# EAGLE library part PIC32MX340F512H (library NBitWonder)
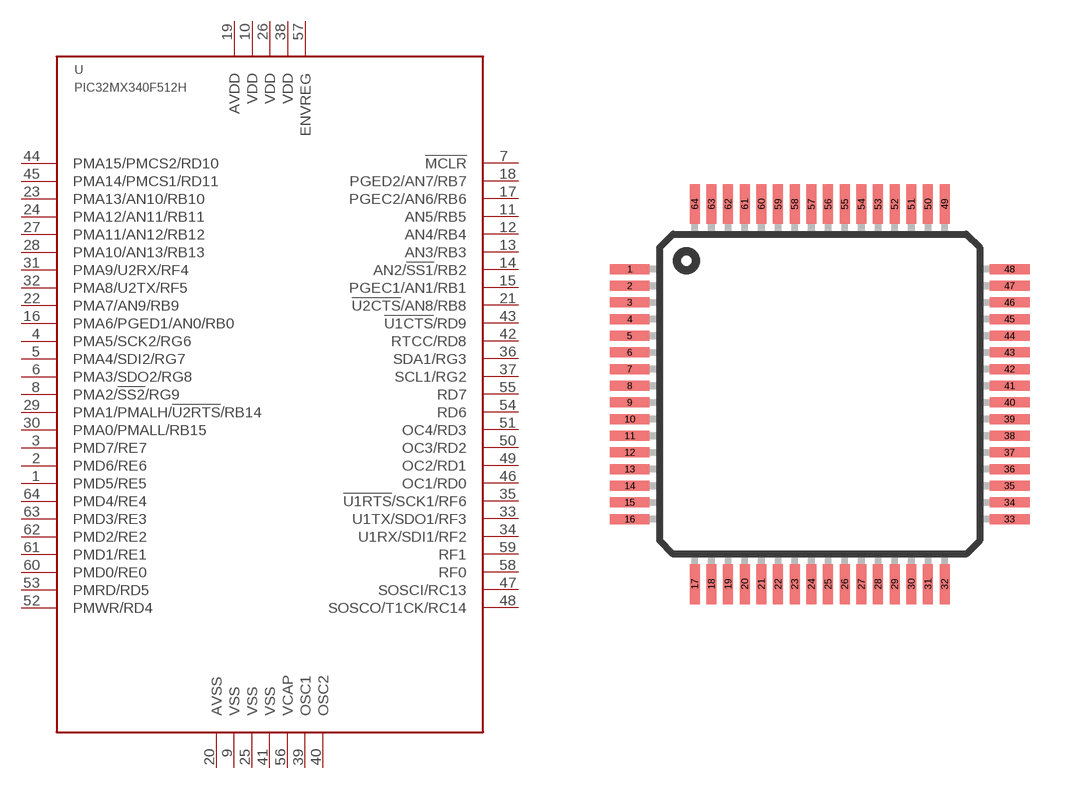
[diagram p7: symbol with the pads of TQFP64-10X10; footprint TQFP64-10X10]

Designator prefix -

## PIC32MX340F512H  [TQFP64-10X10]
1  PMD5/RE5
2  PMD6/RE6
3  PMD7/RE7
4  PMA5/SCK2/RG6
5  PMA4/SDI2/RG7
6  PMA3/SDO2/RG8
7  !MCLR  in
8  PMA2/!SS2!/RG9
9  VSS  pwr
10  VDD  pwr
11  AN5/RB5
12  AN4/RB4
13  AN3/RB3
14  AN2/!SS1!/RB2
15  PGEC1/AN1/RB1
16  PMA6/PGED1/AN0/RB0
17  PGEC2/AN6/RB6
18  PGED2/AN7/RB7
19  AVDD  pwr
20  AVSS  pwr
21  !U2CTS!/AN8/RB8
22  PMA7/AN9/RB9
23  PMA13/AN10/RB10
24  PMA12/AN11/RB11
25  VSS  pwr
26  VDD  pwr
27  PMA11/AN12/RB12
28  PMA10/AN13/RB13
29  PMA1/PMALH/!U2RTS!/RB14
30  PMA0/PMALL/RB15
31  PMA9/U2RX/RF4
32  PMA8/U2TX/RF5
33  U1TX/SDO1/RF3
34  U1RX/SDI1/RF2
35  !U1RTS!/SCK1/RF6
36  SDA1/RG3
37  SCL1/RG2
38  VDD  pwr
39  OSC1  in
40  OSC2  out
41  VSS  pwr
42  RTCC/RD8
43  !U1CTS!/RD9
44  PMA15/PMCS2/RD10
45  PMA14/PMCS1/RD11
46  OC1/RD0
47  SOSCI/RC13
48  SOSCO/T1CK/RC14
49  OC2/RD1
50  OC3/RD2
51  OC4/RD3
52  PMWR/RD4
53  PMRD/RD5
54  RD6
55  RD7
56  VCAP  pwr
57  ENVREG  pwr
58  RF0
59  RF1
60  PMD0/RE0
61  PMD1/RE1
62  PMD2/RE2
63  PMD3/RE3
64  PMD4/RE4

## Footprint TQFP64-10X10 (pad centres in mm)
Thin Quad Flat Pack package type TQ
smd 1.2 x 0.3: 1 -5.7,3.75; 2 -5.7,3.25; 3 -5.7,2.75; 4 -5.7,2.25; 5 -5.7,1.75; 6 -5.7,1.25; 7 -5.7,0.75; 8 -5.7,0.25; 9 -5.7,-0.25; 10 -5.7,-0.75; 11 -5.7,-1.25; 12 -5.7,-1.75; 13 -5.7,-2.25; 14 -5.7,-2.75; 15 -5.7,-3.25; 16 -5.7,-3.75; 33 5.7,-3.75; 34 5.7,-3.25; 35 5.7,-2.75; 36 5.7,-2.25; 37 5.7,-1.75; 38 5.7,-1.25; 39 5.7,-0.75; 40 5.7,-0.25; 41 5.7,0.25; 42 5.7,0.75; 43 5.7,1.25; 44 5.7,1.75; 45 5.7,2.25; 46 5.7,2.75; 47 5.7,3.25; 48 5.7,3.75
smd 0.3 x 1.2: 17 -3.75,-5.7; 18 -3.25,-5.7; 19 -2.75,-5.7; 20 -2.25,-5.7; 21 -1.75,-5.7; 22 -1.25,-5.7; 23 -0.75,-5.7; 24 -0.25,-5.7; 25 0.25,-5.7; 26 0.75,-5.7; 27 1.25,-5.7; 28 1.75,-5.7; 29 2.25,-5.7; 30 2.75,-5.7; 31 3.25,-5.7; 32 3.75,-5.7; 49 3.75,5.7; 50 3.25,5.7; 51 2.75,5.7; 52 2.25,5.7; 53 1.75,5.7; 54 1.25,5.7; 55 0.75,5.7; 56 0.25,5.7; 57 -0.25,5.7; 58 -0.75,5.7; 59 -1.25,5.7; 60 -1.75,5.7; 61 -2.25,5.7; 62 -2.75,5.7; 63 -3.25,5.7; 64 -3.75,5.7